# Altium footprint library SOP65P490X110-9N.PcbLib: 1 footprints
Each footprint in its own frame and in the unit in brackets; x right, y up, seen from the top. Pads: shape width x height; smd on the part's side, far side on the other; paste and mask are expansions set on the pad; w line width, h text height; cw(c..) or ccw(c..) is an arc to the next point about the centre after c.
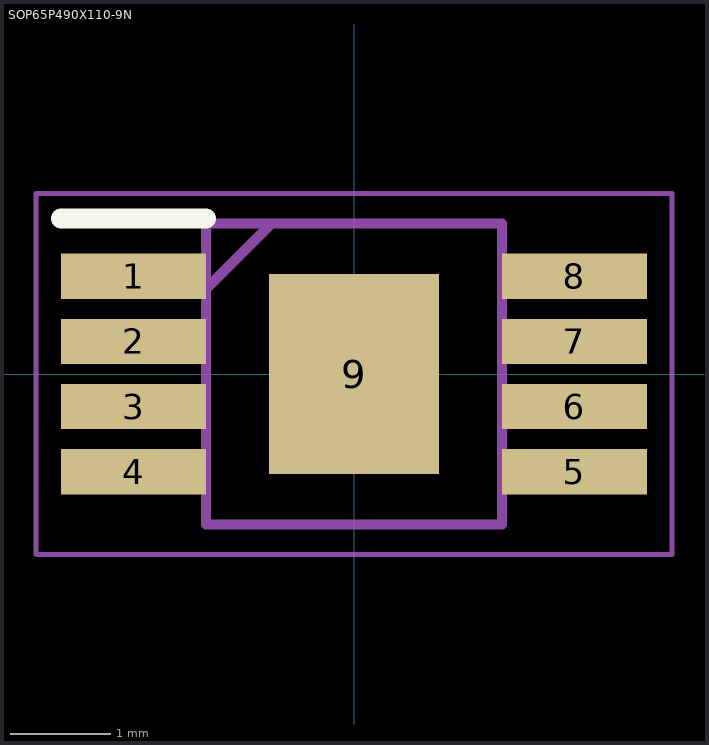
[diagram p0: the footprint, top view; thin cyan lines are the x and y axes]

## SOP65P490X110-9N [mm]
pads (9):
  rect 1.45x0.45 smd: 1(-2.2,0.975) 2(-2.2,0.325) 3(-2.2,-0.325) 4(-2.2,-0.975) 5(2.2,-0.975) 6(2.2,-0.325) 7(2.2,0.325) 8(2.2,0.975)
  rect 1.7x2 smd: 9(0,0)
Top Overlay:
  lines w0.2: -2.925,1.55 -1.475,1.55
Mechanical 15:
  lines w0.1: -1.475,0.85 -0.825,1.5 ; -1.475,-1.5 1.475,-1.5 1.475,1.5 -1.475,1.5 -1.475,-1.5
Mechanical 20:
  lines w0.05: -3.175,-1.8 3.175,-1.8 3.175,1.8 -3.175,1.8 -3.175,-1.8